# EAGLE library part RTC-PCF8563T (library IC-new)
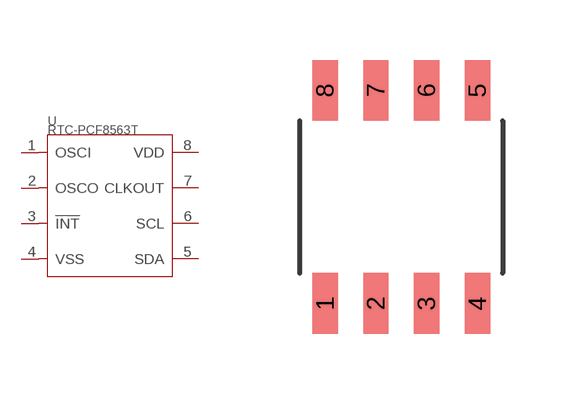
[diagram p3: symbol with the pads of SOP8-1.27-5X3.9MM; footprint SOP8-1.27-5X3.9MM]

Designator prefix U

## RTC-PCF8563T  [SOP8-1.27-5X3.9MM]
1  OSCI
2  OSCO
3  !INT
4  VSS
5  SDA
6  SCL
7  CLKOUT
8  VDD

## Footprint SOP8-1.27-5X3.9MM (pad centres in mm)
SMALL OUTLINE PACKAGE
smd 0.635 x 1.524: 1 -1.905,-2.667; 2 -0.635,-2.667; 3 0.635,-2.667; 4 1.905,-2.667; 5 1.905,2.667; 6 0.635,2.667; 7 -0.635,2.667; 8 -1.905,2.667